# EAGLE library part POWER_POWER_LM358 (library WurzPower)
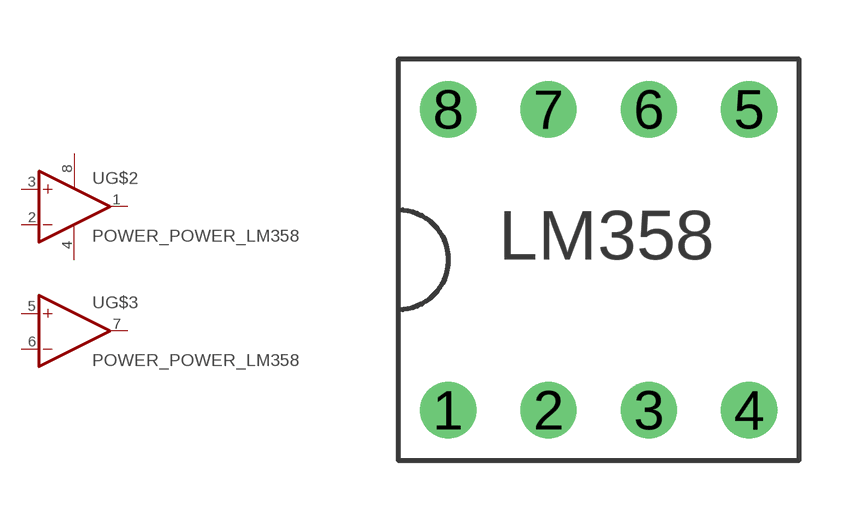
[diagram p3: symbol with the pads of POWER_POWER_LM358; footprint POWER_POWER_LM358]

Designator prefix -; gates G$1=PWR+- G$2=OPAMP G$3=OPAMP

## POWER_POWER_LM358  [POWER_POWER_LM358]
1  G$2:OUT  out
2  G$2:-IN  in
3  G$2:+IN  in
4  G$1:V-  pwr
5  G$3:+IN  in
6  G$3:-IN  in
7  G$3:OUT  out
8  G$1:V+  pwr

## Footprint POWER_POWER_LM358 (pad centres in mm)
drill 0.381 pad 1.422: 1 -5.08,1.27; 2 -2.54,1.27; 3 0,1.27; 4 2.54,1.27; 5 2.54,8.89; 6 0,8.89; 7 -2.54,8.89; 8 -5.08,8.89